# Altium footprint library Button_Switch_THT.PcbLib: 106 footprints (part 5 of 7)
Each footprint in its own frame and in the unit in brackets; x right, y up, seen from the top. Pads: shape width x height; smd on the part's side, far side on the other; paste and mask are expansions set on the pad; w line width, h text height; cw(c..) or ccw(c..) is an arc to the next point about the centre after c.
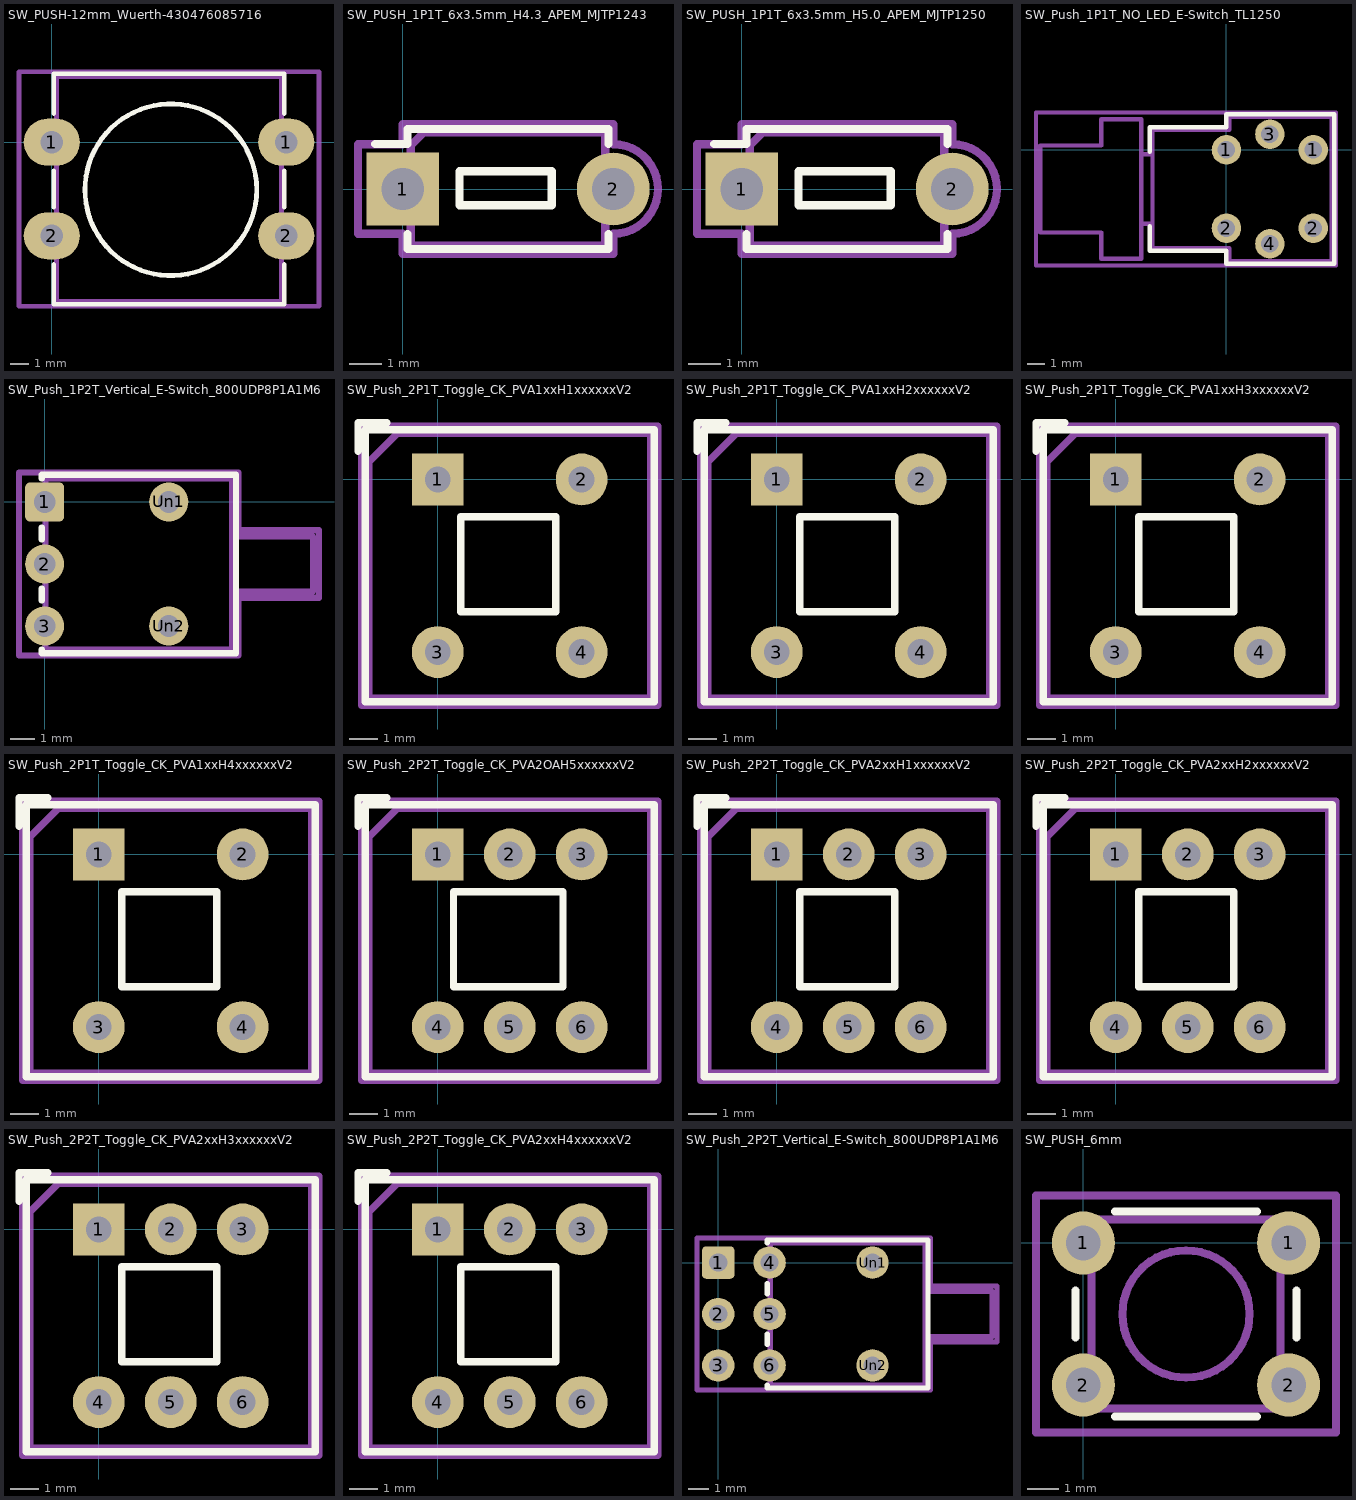
[diagram p4: the footprints below, top view; thin cyan lines are the x and y axes]

## SW_PUSH-12mm_Wuerth-430476085716 [mm]
pads (4):
  rrect100% 3x2.5 hole 1.2: 1(0,0) 1(12.5,0) 2(0,-5) 2(12.5,-5)
F.SilkS:
  circle w0.254: c6.35,-2.54 r4.579
  lines w0.254: 0.1,-6.53 0.1,-8.65 12.4,-8.65 12.4,-6.53 ; 0.1,-3.47 0.1,-1.53 ; 0.1,1.53 0.1,3.65 12.4,3.65 12.4,1.53 ; 12.4,-3.47 12.4,-1.53
F.Fab:
  lines w0.254: 0.25,-8.5 0.25,3.5 12.25,3.5 12.25,-8.5 0.25,-8.5
  text "'.Designator'" at 2.303,-3.38 h1
F.CrtYd:
  lines w0.254: -1.75,-8.75 -1.75,3.75 14.25,3.75 14.25,-8.75 -1.75,-8.75

## SW_PUSH_1P1T_6x3.5mm_H4.3_APEM_MJTP1243 [mm]
pads (2):
  rect 2.25x2.25 hole 1.3: 1(0,0)
  round 2.25 hole 1.3: 2(6.5,0)
F.SilkS:
  lines w0.254: -0.85,1.39 0.15,1.39 0.15,1.85 6.35,1.85 6.35,1.39 ; 0.15,-1.39 0.15,-1.85 6.35,-1.85 6.35,-1.39 ; 1.75,-0.5 1.75,0.55 4.6,0.55 4.6,-0.5 1.75,-0.5
F.Fab:
  lines w0.254: 0.25,-1.75 0.25,1.35 0.65,1.75 6.25,1.75 6.25,-1.75 0.25,-1.75
  text "'.Designator'" at -1.047,-0.84 h1
F.CrtYd:
  lines w0.254: -1.38,-1.38 -1.38,1.38 0,1.38 0,2 6.5,2 6.5,1.38 cw(c6.5,0) 6.5,-1.38 6.5,-2 0,-2 0,-1.38 -1.38,-1.38

## SW_PUSH_1P1T_6x3.5mm_H5.0_APEM_MJTP1250 [mm]
pads (2):
  rect 2.25x2.25 hole 1.3: 1(0,0)
  round 2.25 hole 1.3: 2(6.5,0)
F.SilkS:
  lines w0.254: -0.85,1.39 0.15,1.39 0.15,1.85 6.35,1.85 6.35,1.39 ; 0.15,-1.39 0.15,-1.85 6.35,-1.85 6.35,-1.39 ; 1.75,-0.5 1.75,0.55 4.6,0.55 4.6,-0.5 1.75,-0.5
F.Fab:
  lines w0.254: 0.25,-1.75 0.25,1.35 0.65,1.75 6.25,1.75 6.25,-1.75 0.25,-1.75
  text "'.Designator'" at -1.047,-0.84 h1
F.CrtYd:
  lines w0.254: -1.38,-1.38 -1.38,1.38 0,1.38 0,2 6.5,2 6.5,1.38 cw(c6.5,0) 6.5,-1.38 6.5,-2 0,-2 0,-1.38 -1.38,-1.38

## SW_Push_1P1T_NO_LED_E-Switch_TL1250 [mm]
pads (6):
  round 1.7 hole 1: 1(0,0) 1(5,0) 2(0,-4.5) 2(5,-4.5) 3(2.5,0.9) 4(2.5,-5.4)
F.SilkS:
  lines w0.254: -4.4,-4.4 -4.4,-5.8 0,-5.8 0,-6.55 6.2,-6.55 6.2,2.05 0,2.05 0,1.3 -4.4,1.3 -4.4,-0.1
F.Fab:
  lines w0.254: -4.9,-4.25 -4.25,-4.25 ; -4.9,-0.25 -4.25,-0.25 ; -10.7,-4.75 -10.7,0.25 -7.2,0.25 -7.2,1.75 -4.9,1.75 -4.9,-6.25 -7.2,-6.25 -7.2,-4.75 -10.7,-4.75 ; -4.25,-5.65 -4.25,1.15 0.15,1.15 0.15,1.9 6.05,1.9 6.05,-6.4 0.15,-6.4 0.15,-5.65 -4.25,-5.65
  text "'.Designator'" at -1.547,-4.09 h1
F.CrtYd:
  lines w0.254: -10.95,-6.65 -10.95,2.15 6.3,2.15 6.3,-6.65 -10.95,-6.65

## SW_Push_1P2T_Vertical_E-Switch_800UDP8P1A1M6 [mm]
pads (5):
  rrect25% 1.6x1.6 hole 0.89: 1(0,0)
  round 1.6 hole 0.89: 2(0,-2.54) 3(0,-5.08) Un1(5.08,0) Un2(5.08,-5.08)
F.SilkS:
  lines w0.254: -0.12,-6.04 -0.12,-6.19 7.83,-6.19 7.83,1.11 -0.12,1.11 -0.12,0.96 ; -0.12,-4.04 -0.12,-3.54 ; -0.12,-1.54 -0.12,-1.04
F.Fab:
  lines w0.254: 7.68,-3.665 10.98,-3.665 10.98,-1.415 7.68,-1.415 ; 0.03,-6.04 0.03,0.96 7.68,0.96 7.68,-6.04 0.03,-6.04
  text "'.Designator'" at -0.117,-3.38 h1
F.CrtYd:
  lines w0.254: -1.05,-6.29 -1.05,1.21 7.93,1.21 7.93,-1.16 11.23,-1.16 11.23,-3.92 7.93,-3.92 7.93,-6.29 -1.05,-6.29

## SW_Push_2P1T_Toggle_CK_PVA1xxH1xxxxxxV2 [mm]
pads (4):
  rect 1.8x1.8 hole 0.9: 1(0,0)
  round 1.8 hole 0.9: 2(5,0) 3(0,-6) 4(5,-6)
F.SilkS:
  lines w0.254: -2.77,0.97 -2.77,1.97 -1.77,1.97 ; -2.52,-7.72 -2.52,1.72 7.52,1.72 7.52,-7.72 -2.52,-7.72 ; 0.8,-4.6 0.8,-1.3 4.1,-1.3 4.1,-4.6 0.8,-4.6
F.Fab:
  lines w0.254: -2.4,-7.6 -2.4,0.6 -1.4,1.6 7.4,1.6 7.4,-7.6 -2.4,-7.6
  text "'.Designator'" at -1.547,-3.84 h1
F.CrtYd:
  lines w0.254: -2.65,-7.85 -2.65,1.85 7.65,1.85 7.65,-7.85 -2.65,-7.85

## SW_Push_2P1T_Toggle_CK_PVA1xxH2xxxxxxV2 [mm]
pads (4):
  rect 1.8x1.8 hole 0.9: 1(0,0)
  round 1.8 hole 0.9: 2(5,0) 3(0,-6) 4(5,-6)
F.SilkS:
  lines w0.254: -2.77,0.97 -2.77,1.97 -1.77,1.97 ; -2.52,-7.72 -2.52,1.72 7.52,1.72 7.52,-7.72 -2.52,-7.72 ; 0.8,-4.6 0.8,-1.3 4.1,-1.3 4.1,-4.6 0.8,-4.6
F.Fab:
  lines w0.254: -2.4,-7.6 -2.4,0.6 -1.4,1.6 7.4,1.6 7.4,-7.6 -2.4,-7.6
  text "'.Designator'" at -1.547,-3.84 h1
F.CrtYd:
  lines w0.254: -2.65,-7.85 -2.65,1.85 7.65,1.85 7.65,-7.85 -2.65,-7.85

## SW_Push_2P1T_Toggle_CK_PVA1xxH3xxxxxxV2 [mm]
pads (4):
  rect 1.8x1.8 hole 0.9: 1(0,0)
  round 1.8 hole 0.9: 2(5,0) 3(0,-6) 4(5,-6)
F.SilkS:
  lines w0.254: -2.77,0.97 -2.77,1.97 -1.77,1.97 ; -2.52,-7.72 -2.52,1.72 7.52,1.72 7.52,-7.72 -2.52,-7.72 ; 0.8,-4.6 0.8,-1.3 4.1,-1.3 4.1,-4.6 0.8,-4.6
F.Fab:
  lines w0.254: -2.4,-7.6 -2.4,0.6 -1.4,1.6 7.4,1.6 7.4,-7.6 -2.4,-7.6
  text "'.Designator'" at -1.547,-3.84 h1
F.CrtYd:
  lines w0.254: -2.65,-7.85 -2.65,1.85 7.65,1.85 7.65,-7.85 -2.65,-7.85

## SW_Push_2P1T_Toggle_CK_PVA1xxH4xxxxxxV2 [mm]
pads (4):
  rect 1.8x1.8 hole 0.9: 1(0,0)
  round 1.8 hole 0.9: 2(5,0) 3(0,-6) 4(5,-6)
F.SilkS:
  lines w0.254: -2.77,0.97 -2.77,1.97 -1.77,1.97 ; -2.52,-7.72 -2.52,1.72 7.52,1.72 7.52,-7.72 -2.52,-7.72 ; 0.8,-4.6 0.8,-1.3 4.1,-1.3 4.1,-4.6 0.8,-4.6
F.Fab:
  lines w0.254: -2.4,-7.6 -2.4,0.6 -1.4,1.6 7.4,1.6 7.4,-7.6 -2.4,-7.6
  text "'.Designator'" at -1.547,-3.84 h1
F.CrtYd:
  lines w0.254: -2.65,-7.85 -2.65,1.85 7.65,1.85 7.65,-7.85 -2.65,-7.85

## SW_Push_2P2T_Toggle_CK_PVA2OAH5xxxxxxV2 [mm]
pads (6):
  rect 1.8x1.8 hole 0.9: 1(0,0)
  round 1.8 hole 0.9: 2(2.5,0) 3(5,0) 4(0,-6) 5(2.5,-6) 6(5,-6)
F.SilkS:
  lines w0.254: -2.77,0.97 -2.77,1.97 -1.77,1.97 ; -2.52,-7.72 -2.52,1.72 7.52,1.72 7.52,-7.72 -2.52,-7.72 ; 0.55,-4.6 0.55,-1.3 4.35,-1.3 4.35,-4.6 0.55,-4.6
F.Fab:
  lines w0.254: -2.4,-7.6 -2.4,0.6 -1.4,1.6 7.4,1.6 7.4,-7.6 -2.4,-7.6
  text "'.Designator'" at -1.547,-3.84 h1
F.CrtYd:
  lines w0.254: -2.65,-7.85 -2.65,1.85 7.65,1.85 7.65,-7.85 -2.65,-7.85

## SW_Push_2P2T_Toggle_CK_PVA2xxH1xxxxxxV2 [mm]
pads (6):
  rect 1.8x1.8 hole 0.9: 1(0,0)
  round 1.8 hole 0.9: 2(2.5,0) 3(5,0) 4(0,-6) 5(2.5,-6) 6(5,-6)
F.SilkS:
  lines w0.254: -2.77,0.97 -2.77,1.97 -1.77,1.97 ; -2.52,-7.72 -2.52,1.72 7.52,1.72 7.52,-7.72 -2.52,-7.72 ; 0.8,-4.6 0.8,-1.3 4.1,-1.3 4.1,-4.6 0.8,-4.6
F.Fab:
  lines w0.254: -2.4,-7.6 -2.4,0.6 -1.4,1.6 7.4,1.6 7.4,-7.6 -2.4,-7.6
  text "'.Designator'" at -1.547,-3.84 h1
F.CrtYd:
  lines w0.254: -2.65,-7.85 -2.65,1.85 7.65,1.85 7.65,-7.85 -2.65,-7.85

## SW_Push_2P2T_Toggle_CK_PVA2xxH2xxxxxxV2 [mm]
pads (6):
  rect 1.8x1.8 hole 0.9: 1(0,0)
  round 1.8 hole 0.9: 2(2.5,0) 3(5,0) 4(0,-6) 5(2.5,-6) 6(5,-6)
F.SilkS:
  lines w0.254: -2.77,0.97 -2.77,1.97 -1.77,1.97 ; -2.52,-7.72 -2.52,1.72 7.52,1.72 7.52,-7.72 -2.52,-7.72 ; 0.8,-4.6 0.8,-1.3 4.1,-1.3 4.1,-4.6 0.8,-4.6
F.Fab:
  lines w0.254: -2.4,-7.6 -2.4,0.6 -1.4,1.6 7.4,1.6 7.4,-7.6 -2.4,-7.6
  text "'.Designator'" at -1.547,-3.84 h1
F.CrtYd:
  lines w0.254: -2.65,-7.85 -2.65,1.85 7.65,1.85 7.65,-7.85 -2.65,-7.85

## SW_Push_2P2T_Toggle_CK_PVA2xxH3xxxxxxV2 [mm]
pads (6):
  rect 1.8x1.8 hole 0.9: 1(0,0)
  round 1.8 hole 0.9: 2(2.5,0) 3(5,0) 4(0,-6) 5(2.5,-6) 6(5,-6)
F.SilkS:
  lines w0.254: -2.77,0.97 -2.77,1.97 -1.77,1.97 ; -2.52,-7.72 -2.52,1.72 7.52,1.72 7.52,-7.72 -2.52,-7.72 ; 0.8,-4.6 0.8,-1.3 4.1,-1.3 4.1,-4.6 0.8,-4.6
F.Fab:
  lines w0.254: -2.4,-7.6 -2.4,0.6 -1.4,1.6 7.4,1.6 7.4,-7.6 -2.4,-7.6
  text "'.Designator'" at -1.547,-3.84 h1
F.CrtYd:
  lines w0.254: -2.65,-7.85 -2.65,1.85 7.65,1.85 7.65,-7.85 -2.65,-7.85

## SW_Push_2P2T_Toggle_CK_PVA2xxH4xxxxxxV2 [mm]
pads (6):
  rect 1.8x1.8 hole 0.9: 1(0,0)
  round 1.8 hole 0.9: 2(2.5,0) 3(5,0) 4(0,-6) 5(2.5,-6) 6(5,-6)
F.SilkS:
  lines w0.254: -2.77,0.97 -2.77,1.97 -1.77,1.97 ; -2.52,-7.72 -2.52,1.72 7.52,1.72 7.52,-7.72 -2.52,-7.72 ; 0.8,-4.6 0.8,-1.3 4.1,-1.3 4.1,-4.6 0.8,-4.6
F.Fab:
  lines w0.254: -2.4,-7.6 -2.4,0.6 -1.4,1.6 7.4,1.6 7.4,-7.6 -2.4,-7.6
  text "'.Designator'" at -1.547,-3.84 h1
F.CrtYd:
  lines w0.254: -2.65,-7.85 -2.65,1.85 7.65,1.85 7.65,-7.85 -2.65,-7.85

## SW_Push_2P2T_Vertical_E-Switch_800UDP8P1A1M6 [mm]
pads (8):
  rrect25% 1.6x1.6 hole 0.89: 1(0,0)
  round 1.6 hole 0.89: 2(0,-2.54) 3(0,-5.08) 4(2.54,0) 5(2.54,-2.54) 6(2.54,-5.08) Un1(7.62,0) Un2(7.62,-5.08)
F.SilkS:
  lines w0.254: 2.42,-6.04 2.42,-6.19 10.37,-6.19 10.37,1.11 2.42,1.11 2.42,0.96 ; 2.42,-4.04 2.42,-3.54 ; 2.42,-1.54 2.42,-1.04
F.Fab:
  lines w0.254: 10.22,-3.665 13.52,-3.665 13.52,-1.415 10.22,-1.415 ; 2.57,-6.04 2.57,0.96 10.22,0.96 10.22,-6.04 2.57,-6.04
  text "'.Designator'" at 2.423,-3.38 h1
F.CrtYd:
  lines w0.254: -1.05,-6.29 -1.05,1.21 10.47,1.21 10.47,-1.16 13.77,-1.16 13.77,-3.92 10.47,-3.92 10.47,-6.29 -1.05,-6.29

## SW_PUSH_6mm [mm]
pads (4):
  round 2 hole 1.1: 1(0,0) 1(6.5,0) 2(0,-4.5) 2(6.5,-4.5)
F.SilkS:
  lines w0.254: -0.25,-3 -0.25,-1.5 ; 1,-5.5 5.5,-5.5 ; 1,1 5.5,1 ; 6.75,-3 6.75,-1.5
F.Fab:
  circle w0.254: c3.25,-2.25 r2.016
  lines w0.254: 0.25,-5.25 0.25,0.75 3.25,0.75 6.25,0.75 6.25,-5.25 0.25,-5.25
  text "'.Designator'" at -0.797,-3.09 h1
F.CrtYd:
  lines w0.254: -1.5,-6 -1.5,-5.75 -1.5,1.25 -1.5,1.5 -1.25,1.5 7.75,1.5 8,1.5 8,1.25 8,-5.75 8,-6 7.75,-6 -1.25,-6 -1.5,-6